# Altium integrated library Diodes - TVS.IntLib: 5379 symbols (part 17 of 122)
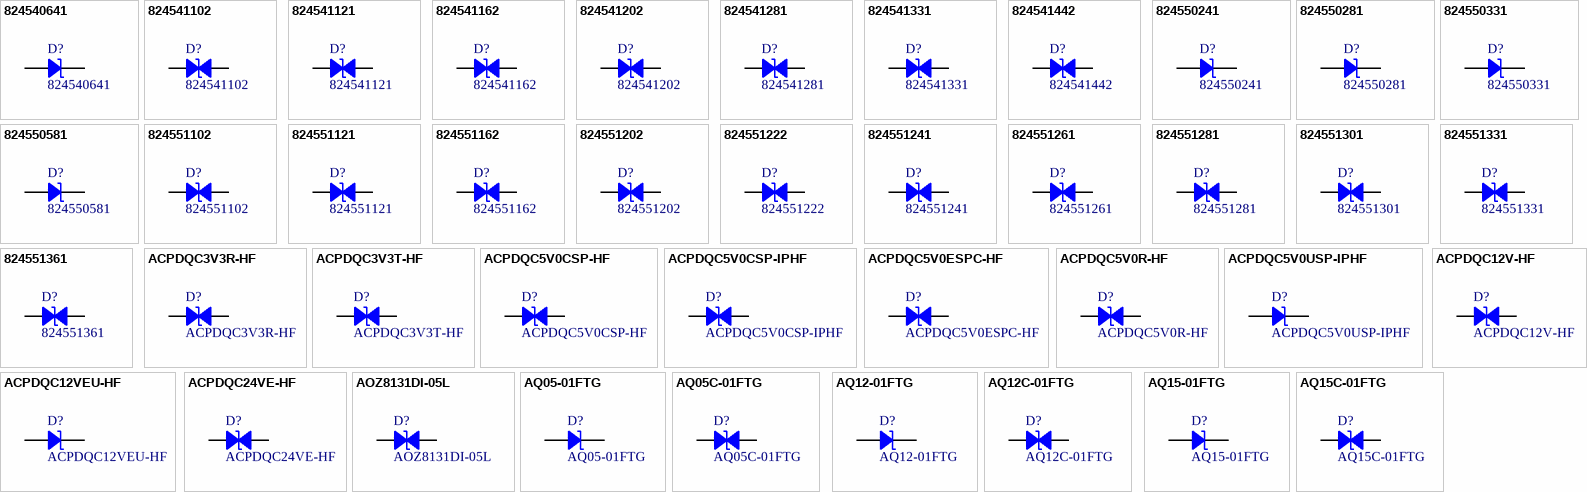
[diagram p150: symbols 824540641 to AQ15C-01FTG]

## ACPDQC5V0CSP-HF
designator D?
TVS DIODE 5V 20V 0402C/SOD923F; Manufacturer: Comchip Technology; Bidirectional Channels: 1; Capacitance @ Frequency: 0.3pF @ 1MHz; Current - Peak Pulse (10/1000µs): 3A (8/20µs); Power Line Protection: No; Power - Peak Pulse: 60W; Type: Zener; Voltage - Breakdown (Min): 6V; Voltage - Reverse Standoff (Typ): 5V (Max); Part Number: ACPDQC5V0CSP-HF; Applications: Automotive; ComponentLink1Description: Datasheet; ComponentLink1URL: http://www.comchiptech.com/admin/files/product/ACPDQC5V0CSP-HF%20RevA449708.pdf; ComponentLink2Description: DigiKey Link; ComponentLink2URL: http://digikey.com/product-detail/en/comchip-technology/ACPDQC5V0CSP-HF/641-1783-1-ND/6138947; Device Package: 0402 (1006 Metric); LastUpdated: 9/2/2020 1:28:49 AM; Lifecycle Status: Active; Minimum Order: 1; Mounting Type: Surface Mount; Operating Temperature: -55°C ~ 150°C (TJ); Package / Case: 0402 (1006 Metric); Packaging: TapeAndReel; PartId: 10461; Part Status: Active; Price: 0.08; Series: Automotive, AEC-Q101; Supplier 1: DigiKey; Supplier Part Number 1: 641-1783-1-ND; Supplier Device Package: 0402/SOD-923F; Voltage - Clamping (Max) @ Ipp: 20V
footprint 0402
pins: 1, 2

## ACPDQC5V0CSP-IPHF
designator D?
ESD DIODE 5VWM 19VC BI-DIR 0402; Manufacturer: Comchip Technology; Bidirectional Channels: 1; Capacitance @ Frequency: 0.15pF @ 1MHz; Current - Peak Pulse (10/1000µs): 2A (8/20µs); Power Line Protection: No; Power - Peak Pulse: 38W; Type: Zener; Voltage - Breakdown (Min): 7V; Voltage - Clamping (Max) @ Ipp: 19V; Voltage - Reverse Standoff (Typ): 5V (Max); Part Number: ACPDQC5V0CSP-IPHF; Applications: Automotive; ComponentLink1Description: Datasheet; ComponentLink1URL: http://www.comchiptech.com/admin/files/product/ACPDQC5V0CSP-IPHF%20RevA.PDF; ComponentLink2Description: DigiKey Link; ComponentLink2URL: http://digikey.com/product-detail/en/comchip-technology/ACPDQC5V0CSP-IPHF/641-2058-1-ND/10106909; Device Package: 0402 (1006 Metric); LastUpdated: 9/2/2020 1:28:49 AM; Lifecycle Status: Active; Minimum Order: 1; Mounting Type: Surface Mount; Operating Temperature: -55°C ~ 150°C (TJ); Package / Case: 0402 (1006 Metric); Packaging: TapeAndReel; PartId: 10455; Part Status: Active; Price: 0.09; Series: Automotive, AEC-Q101; Supplier 1: DigiKey; Supplier Part Number 1: 641-2058-1-ND; Supplier Device Package: 0402C/SOD-923F
footprint 0402
pins: 1, 2

## ACPDQC5V0ESPC-HF
designator D?
ESD DIODE 5VWM 25VC BI-DIR 0402; Manufacturer: Comchip Technology; Bidirectional Channels: 1; Capacitance @ Frequency: 0.28pF @ 1MHz; Current - Peak Pulse (10/1000µs): 4A (8/20µs); Power Line Protection: No; Power - Peak Pulse: 100W; Type: Zener; Voltage - Breakdown (Min): 7V; Voltage - Clamping (Max) @ Ipp: 35V (Typ); Voltage - Reverse Standoff (Typ): 5V (Max); Part Number: ACPDQC5V0ESPC-HF; Applications: Automotive; ComponentLink1Description: Datasheet; ComponentLink1URL: http://www.comchiptech.com/admin/files/product/ACPDQC5V0ESPC-HF%20RevA925610.pdf; ComponentLink2Description: DigiKey Link; ComponentLink2URL: http://digikey.com/product-detail/en/comchip-technology/ACPDQC5V0ESPC-HF/641-2059-1-ND/10106910; Device Package: 0402 (1006 Metric); LastUpdated: 9/2/2020 1:28:48 AM; Lifecycle Status: Active; Minimum Order: 1; Mounting Type: Surface Mount; Operating Temperature: -40°C ~ 125°C (TJ); Package / Case: 0402 (1006 Metric); Packaging: TapeAndReel; PartId: 10430; Part Status: Active; Price: 0.08; Series: Automotive, AEC-Q101; Supplier 1: DigiKey; Supplier Part Number 1: 641-2059-1-ND; Supplier Device Package: 0402C/SOD-923F
footprint 0402
pins: 1, 2

## ACPDQC5V0R-HF
designator D?
TVS DIODE 5V 12V 0402C/SOD923F; Manufacturer: Comchip Technology; Bidirectional Channels: 1; Capacitance @ Frequency: 24pF @ 1MHz; Current - Peak Pulse (10/1000µs): 11A (8/20µs); Power Line Protection: No; Type: Zener; Voltage - Breakdown (Min): 5.6V; Voltage - Reverse Standoff (Typ): 5V (Max); Part Number: ACPDQC5V0R-HF; Applications: Automotive; ComponentLink1Description: Datasheet; ComponentLink1URL: http://www.comchiptech.com/admin/files/product/ACPDxx5V0R-HF%20Series%20RevB661222.pdf; ComponentLink2Description: DigiKey Link; ComponentLink2URL: http://digikey.com/product-detail/en/comchip-technology/ACPDQC5V0R-HF/641-1636-1-ND/5013841; Device Package: 0402 (1005 Metric); LastUpdated: 9/2/2020 1:28:49 AM; Lifecycle Status: Active; Minimum Order: 1; Mounting Type: Surface Mount; Operating Temperature: -40°C ~ 150°C (TJ); Package / Case: 0402 (1005 Metric); Packaging: TapeAndReel; PartId: 10494; Part Status: Active; Price: 0.06; Series: Automotive, AEC-Q101; Supplier 1: DigiKey; Supplier Part Number 1: 641-1636-1-ND; Supplier Device Package: 0402C/SOD-923F; Voltage - Clamping (Max) @ Ipp: 12V
footprint 0402
pins: 1, 2

## ACPDQC5V0USP-IPHF
designator D?
ESD DIODE 5VWM 15VC 0402 SOD-923; Manufacturer: Comchip Technology; Capacitance @ Frequency: 0.3pF @ 1MHz; Current - Peak Pulse (10/1000µs): 2A (8/20µs); Power Line Protection: No; Power - Peak Pulse: 30W; Type: Zener; Unidirectional Channels: 1; Voltage - Breakdown (Min): 6V; Voltage - Clamping (Max) @ Ipp: 15V; Voltage - Reverse Standoff (Typ): 5V (Max); Part Number: ACPDQC5V0USP-IPHF; Applications: Automotive; ComponentLink1Description: Datasheet; ComponentLink1URL: http://www.comchiptech.com/admin/files/product/12015_20190312162617.PDF; ComponentLink2Description: DigiKey Link; ComponentLink2URL: http://digikey.com/product-detail/en/comchip-technology/ACPDQC5V0USP-IPHF/641-2048-1-ND/10106899; Device Package: 0402 (1006 Metric); LastUpdated: 9/2/2020 1:28:45 AM; Lifecycle Status: Active; Minimum Order: 1; Mounting Type: Surface Mount; Operating Temperature: -55°C ~ 150°C (TJ); Package / Case: 0402 (1006 Metric); Packaging: TapeAndReel; PartId: 10390; Part Status: Active; Price: 0.07; Series: Automotive, AEC-Q101; Supplier 1: DigiKey; Supplier Part Number 1: 641-2048-1-ND; Supplier Device Package: 0402C/SOD-923F
footprint 0402
pins: 1, 2

## ACPDQC12V-HF
designator D?
ESD DIODE 12VWM 25VC BI-DIR 0402; Manufacturer: Comchip Technology; Bidirectional Channels: 1; Capacitance @ Frequency: 12pF @ 1MHz; Current - Peak Pulse (10/1000µs): 1A (8/20µs); Power Line Protection: No; Power - Peak Pulse: 25W; Type: Zener; Voltage - Breakdown (Min): 13V; Voltage - Clamping (Max) @ Ipp: 25V; Voltage - Reverse Standoff (Typ): 12V (Max); Part Number: ACPDQC12V-HF; Applications: Automotive; ComponentLink1Description: Datasheet; ComponentLink1URL: http://www.comchiptech.com/admin/files/product/12027_20190315101536.pdf; ComponentLink2Description: DigiKey Link; ComponentLink2URL: http://digikey.com/product-detail/en/comchip-technology/ACPDQC12V-HF/641-2050-1-ND/10106901; Device Package: 0402 (1006 Metric); LastUpdated: 9/2/2020 1:28:49 AM; Lifecycle Status: Active; Minimum Order: 1; Mounting Type: Surface Mount; Operating Temperature: -40°C ~ 125°C (TJ); Package / Case: 0402 (1006 Metric); Packaging: TapeAndReel; PartId: 10478; Part Status: Active; Price: 0.08; Series: Automotive, AEC-Q101; Supplier 1: DigiKey; Supplier Part Number 1: 641-2050-1-ND; Supplier Device Package: 0402C/SOD-923F
footprint 0402
pins: 1, 2

## ACPDQC12VEU-HF
designator D?
ESD DIODE 12VWM 22VC 0402 SOD-92; Manufacturer: Comchip Technology; Capacitance @ Frequency: 60pF @ 1MHz (Max); Current - Peak Pulse (10/1000µs): 5A (8/20µs); Power Line Protection: No; Power - Peak Pulse: 110W; Type: Zener; Unidirectional Channels: 1; Voltage - Breakdown (Min): 13.5V; Voltage - Clamping (Max) @ Ipp: 22V; Voltage - Reverse Standoff (Typ): 12V (Max); Part Number: ACPDQC12VEU-HF; Applications: Automotive; ComponentLink1Description: Datasheet; ComponentLink1URL: http://www.comchiptech.com/admin/files/product/12014_20190312162309.PDF; ComponentLink2Description: DigiKey Link; ComponentLink2URL: http://digikey.com/product-detail/en/comchip-technology/ACPDQC12VEU-HF/641-2051-1-ND/10106902; Device Package: 0402 (1006 Metric); LastUpdated: 9/2/2020 1:28:45 AM; Lifecycle Status: Active; Minimum Order: 1; Mounting Type: Surface Mount; Operating Temperature: -55°C ~ 125°C (TJ); Package / Case: 0402 (1006 Metric); Packaging: TapeAndReel; PartId: 10371; Part Status: Active; Price: 0.04; Series: Automotive, AEC-Q101; Supplier 1: DigiKey; Supplier Part Number 1: 641-2051-1-ND; Supplier Device Package: 0402C/SOD-923F
footprint 0402
pins: 1, 2

## ACPDQC24VE-HF
designator D?
TVS DIODE 24V 44V 0402C/SOD923F; Manufacturer: Comchip Technology; Bidirectional Channels: 1; Capacitance @ Frequency: 16pF @ 1MHz; Current - Peak Pulse (10/1000µs): 2.5A (8/20µs); Power Line Protection: No; Power - Peak Pulse: 110W; Type: Zener; Voltage - Breakdown (Min): 26.5V; Voltage - Reverse Standoff (Typ): 24V (Max); Part Number: ACPDQC24VE-HF; Applications: Automotive; ComponentLink1Description: Datasheet; ComponentLink1URL: http://www.comchiptech.com/admin/files/product/ACPDQC24VE-HF%20RevA727899.pdf; ComponentLink2Description: DigiKey Link; ComponentLink2URL: http://digikey.com/product-detail/en/comchip-technology/ACPDQC24VE-HF/641-1883-1-ND/7100781; Device Package: 0402 (1006 Metric); LastUpdated: 9/2/2020 1:28:49 AM; Lifecycle Status: Active; Minimum Order: 1; Mounting Type: Surface Mount; Operating Temperature: -55°C ~ 125°C (TJ); Package / Case: 0402 (1006 Metric); Packaging: TapeAndReel; PartId: 10453; Part Status: Active; Price: 0.07; Series: Automotive, AEC-Q101; Supplier 1: DigiKey; Supplier Part Number 1: 641-1883-1-ND; Supplier Device Package: 0402C/SOD-923F; Voltage - Clamping (Max) @ Ipp: 44V
footprint 0402
pins: 1, 2

## AOZ8131DI-05L
designator D?
TVS DIODE 5V 22V 2DFN; Manufacturer: Alpha & Omega Semiconductor Inc.; Bidirectional Channels: 1; Capacitance @ Frequency: 1.25pF @ 1MHz; Current - Peak Pulse (10/1000µs): 4A (8/20µs); Power Line Protection: No; Type: Zener; Voltage - Breakdown (Min): 6V; Voltage - Reverse Standoff (Typ): 5V (Max); Part Number: AOZ8131DI-05L; Applications: General Purpose; ComponentLink1Description: Datasheet; ComponentLink1URL: http://aosmd.com/res/data_sheets/AOZ8131DI.pdf; ComponentLink2Description: DigiKey Link; ComponentLink2URL: http://digikey.com/product-detail/en/alpha-omega-semiconductor-inc/AOZ8131DI-05L/785-1645-1-ND/4484981; Device Package: 0402 (1006 Metric); LastUpdated: 9/2/2020 1:28:49 AM; Lifecycle Status: Active; Minimum Order: 1; Mounting Type: Surface Mount; Operating Temperature: -40°C ~ 125°C (TJ); Package / Case: 0402 (1006 Metric); Packaging: TapeAndReel; PartId: 10486; Part Status: Active; Price: 0.09; Series: -; Supplier 1: DigiKey; Supplier Part Number 1: 785-1645-1-ND; Supplier Device Package: 2-DFN (1x0.6); Voltage - Clamping (Max) @ Ipp: 22V
footprint 0402
pins: 1, 2

## AQ05-01FTG
designator D?
TVS DIODE 5V 13V SOD323; Manufacturer: Littelfuse Inc.; Capacitance @ Frequency: 350pF @ 1MHz (Max); Current - Peak Pulse (10/1000µs): 30A (8/20µs); Power Line Protection: No; Power - Peak Pulse: 450W; Type: Zener; Unidirectional Channels: 1; Voltage - Reverse Standoff (Typ): 5V (Max); Part Number: AQ05-01FTG; Applications: Automotive, CAN; ComponentLink1Description: Datasheet; ComponentLink1URL: https://www.littelfuse.com/~/media/electronics/datasheets/tvs_diode_arrays/littelfuse_tvs_diode_array_aqxx_datasheet.pdf.pdf; ComponentLink2Description: DigiKey Link; ComponentLink2URL: http://digikey.com/product-detail/en/littelfuse-inc/AQ05-01FTG/F10384CT-ND/7902212; LastUpdated: 9/2/2020 1:28:27 AM; Lifecycle Status: Active; Minimum Order: 1; Mounting Type: Surface Mount; Operating Temperature: -40°C ~ 150°C (TA); Package / Case: SC-76, SOD-323; Packaging: TapeAndReel; PartId: 9883; Part Status: Active; Price: 0.11; Series: Automotive, AEC-Q101, AQ, SPA®; Supplier 1: DigiKey; Supplier Part Number 1: F10384CT-ND; Supplier Device Package: SOD-323; Voltage - Clamping (Max) @ Ipp: 13V
footprint SOD323
pins: 1, 2

## AQ05C-01FTG
designator D?
TVS DIODE 5V 14.5V SOD323; Manufacturer: Littelfuse Inc.; Bidirectional Channels: 1; Capacitance @ Frequency: 200pF @ 1MHz (Max); Current - Peak Pulse (10/1000µs): 30A (8/20µs); Power Line Protection: No; Power - Peak Pulse: 450W; Type: Zener; Voltage - Reverse Standoff (Typ): 5V (Max); Part Number: AQ05C-01FTG; Applications: Automotive, CAN; ComponentLink1Description: Datasheet; ComponentLink1URL: https://www.littelfuse.com/~/media/electronics/datasheets/tvs_diode_arrays/littelfuse_tvs_diode_array_aqxxc_datasheet.pdf.pdf; ComponentLink2Description: DigiKey Link; ComponentLink2URL: http://digikey.com/product-detail/en/littelfuse-inc/AQ05C-01FTG/F10385CT-ND/7902213; LastUpdated: 9/2/2020 1:28:29 AM; Lifecycle Status: Active; Minimum Order: 1; Mounting Type: Surface Mount; Operating Temperature: -40°C ~ 150°C (TA); Package / Case: SC-76, SOD-323; Packaging: TapeAndReel; PartId: 9968; Part Status: Active; Price: 0.13; Series: Automotive, AEC-Q101, AQ, SPA®; Supplier 1: DigiKey; Supplier Part Number 1: F10385CT-ND; Supplier Device Package: SOD-323; Voltage - Clamping (Max) @ Ipp: 14.5V
footprint SOD323
pins: 1, 2

## AQ12-01FTG
designator D?
TVS DIODE 12V 22.5V SOD323; Manufacturer: Littelfuse Inc.; Capacitance @ Frequency: 150pF @ 1MHz (Max); Current - Peak Pulse (10/1000µs): 17A (8/20µs); Power Line Protection: No; Power - Peak Pulse: 450W; Type: Zener; Unidirectional Channels: 1; Voltage - Reverse Standoff (Typ): 12V (Max); Part Number: AQ12-01FTG; Applications: Automotive, CAN; ComponentLink1Description: Datasheet; ComponentLink1URL: https://www.littelfuse.com/~/media/electronics/datasheets/tvs_diode_arrays/littelfuse_tvs_diode_array_aqxx_datasheet.pdf.pdf; ComponentLink2Description: DigiKey Link; ComponentLink2URL: http://digikey.com/product-detail/en/littelfuse-inc/AQ12-01FTG/F10386CT-ND/7902214; LastUpdated: 9/2/2020 1:28:27 AM; Lifecycle Status: Active; Minimum Order: 1; Mounting Type: Surface Mount; Operating Temperature: -40°C ~ 150°C (TA); Package / Case: SC-76, SOD-323; Packaging: CutTape; PartId: 9897; Part Status: Active; Price: 0.42; Series: Automotive, AEC-Q101, AQ, SPA®; Supplier 1: DigiKey; Supplier Part Number 1: F10386CT-ND; Supplier Device Package: SOD-323; Voltage - Clamping (Max) @ Ipp: 22.5V
footprint SOD323
pins: 1, 2

## AQ12C-01FTG
designator D?
TVS DIODE 12V 23V SOD323; Manufacturer: Littelfuse Inc.; Bidirectional Channels: 1; Capacitance @ Frequency: 100pF @ 1MHz (Max); Current - Peak Pulse (10/1000µs): 17A (8/20µs); Power Line Protection: No; Power - Peak Pulse: 450W; Type: Zener; Voltage - Reverse Standoff (Typ): 12V (Max); Part Number: AQ12C-01FTG; Applications: Automotive, CAN; ComponentLink1Description: Datasheet; ComponentLink1URL: https://www.littelfuse.com/~/media/electronics/datasheets/tvs_diode_arrays/littelfuse_tvs_diode_array_aqxxc_datasheet.pdf.pdf; ComponentLink2Description: DigiKey Link; ComponentLink2URL: http://digikey.com/product-detail/en/littelfuse-inc/AQ12C-01FTG/F10387CT-ND/7902215; LastUpdated: 9/2/2020 1:28:29 AM; Lifecycle Status: Active; Minimum Order: 1; Mounting Type: Surface Mount; Operating Temperature: -40°C ~ 150°C (TA); Package / Case: SC-76, SOD-323; Packaging: TapeAndReel; PartId: 9971; Part Status: Active; Price: 0.13; Series: Automotive, AEC-Q101, AQ, SPA®; Supplier 1: DigiKey; Supplier Part Number 1: F10387CT-ND; Supplier Device Package: SOD-323; Voltage - Clamping (Max) @ Ipp: 23V
footprint SOD323
pins: 1, 2

## AQ15-01FTG
designator D?
TVS DIODE 15V 30V SOD323; Manufacturer: Littelfuse Inc.; Capacitance @ Frequency: 100pF @ 1MHz (Max); Current - Peak Pulse (10/1000µs): 12A (8/20µs); Power Line Protection: No; Power - Peak Pulse: 450W; Type: Zener; Unidirectional Channels: 1; Voltage - Reverse Standoff (Typ): 15V (Max); Part Number: AQ15-01FTG; Applications: Automotive, CAN; ComponentLink1Description: Datasheet; ComponentLink1URL: https://www.littelfuse.com/~/media/electronics/datasheets/tvs_diode_arrays/littelfuse_tvs_diode_array_aqxx_datasheet.pdf.pdf; ComponentLink2Description: DigiKey Link; ComponentLink2URL: http://digikey.com/product-detail/en/littelfuse-inc/AQ15-01FTG/F10388CT-ND/7902216; LastUpdated: 9/2/2020 1:28:27 AM; Lifecycle Status: Active; Minimum Order: 1; Mounting Type: Surface Mount; Operating Temperature: -40°C ~ 150°C (TA); Package / Case: SC-76, SOD-323; Packaging: CutTape; PartId: 9903; Part Status: Active; Price: 0.42; Series: Automotive, AEC-Q101, AQ, SPA®; Supplier 1: DigiKey; Supplier Part Number 1: F10388CT-ND; Supplier Device Package: SOD-323; Voltage - Clamping (Max) @ Ipp: 30V
footprint SOD323
pins: 1, 2

## AQ15C-01FTG
designator D?
TVS DIODE 15V 31V SOD323; Manufacturer: Littelfuse Inc.; Bidirectional Channels: 1; Capacitance @ Frequency: 75pF @ 1MHz (Max); Current - Peak Pulse (10/1000µs): 12A (8/20µs); Power Line Protection: No; Power - Peak Pulse: 450W; Type: Zener; Voltage - Reverse Standoff (Typ): 15V (Max); Part Number: AQ15C-01FTG; Applications: Automotive, CAN; ComponentLink1Description: Datasheet; ComponentLink1URL: https://www.littelfuse.com/~/media/electronics/datasheets/tvs_diode_arrays/littelfuse_tvs_diode_array_aqxxc_datasheet.pdf.pdf; ComponentLink2Description: DigiKey Link; ComponentLink2URL: http://digikey.com/product-detail/en/littelfuse-inc/AQ15C-01FTG/F10389CT-ND/7902217; LastUpdated: 9/2/2020 1:28:29 AM; Lifecycle Status: Active; Minimum Order: 1; Mounting Type: Surface Mount; Operating Temperature: -40°C ~ 150°C (TA); Package / Case: SC-76, SOD-323; Packaging: TapeAndReel; PartId: 9983; Part Status: Active; Price: 0.13; Series: Automotive, AEC-Q101, AQ, SPA®; Supplier 1: DigiKey; Supplier Part Number 1: F10389CT-ND; Supplier Device Package: SOD-323; Voltage - Clamping (Max) @ Ipp: 31V
footprint SOD323
pins: 1, 2

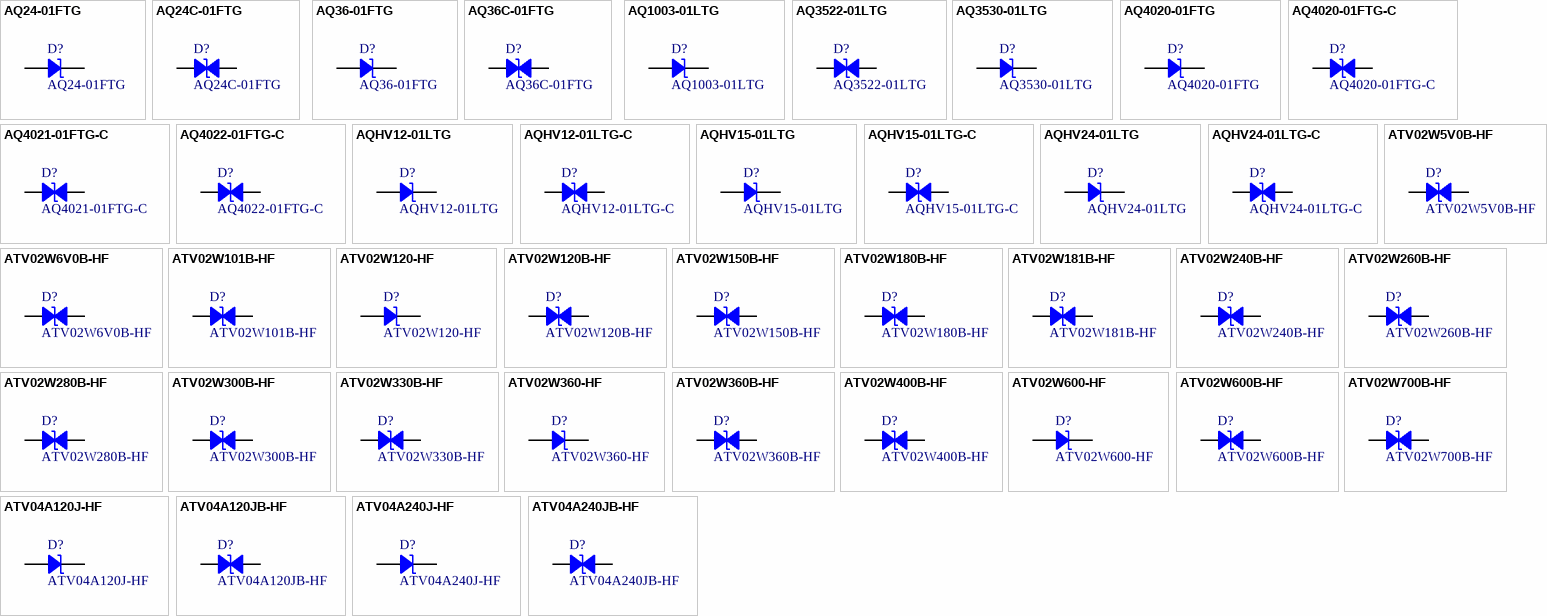
[diagram p18: symbols AQ24-01FTG to ATV04A240JB-HF]

## AQ24-01FTG
designator D?
TVS DIODE 24V 42V SOD323; Manufacturer: Littelfuse Inc.; Capacitance @ Frequency: 65pF @ 1MHz (Max); Current - Peak Pulse (10/1000µs): 7A (8/20µs); Power Line Protection: No; Power - Peak Pulse: 450W; Type: Zener; Unidirectional Channels: 1; Voltage - Reverse Standoff (Typ): 24V (Max); Part Number: AQ24-01FTG; Applications: Automotive, CAN; ComponentLink1Description: Datasheet; ComponentLink1URL: https://www.littelfuse.com/~/media/electronics/datasheets/tvs_diode_arrays/littelfuse_tvs_diode_array_aqxx_datasheet.pdf.pdf; ComponentLink2Description: DigiKey Link; ComponentLink2URL: http://digikey.com/product-detail/en/littelfuse-inc/AQ24-01FTG/F10390CT-ND/7902218; LastUpdated: 9/2/2020 1:28:27 AM; Lifecycle Status: Active; Minimum Order: 1; Mounting Type: Surface Mount; Operating Temperature: -40°C ~ 150°C (TA); Package / Case: SC-76, SOD-323; Packaging: CutTape; PartId: 9896; Part Status: Active; Price: 0.42; Series: Automotive, AEC-Q101, AQ, SPA®; Supplier 1: DigiKey; Supplier Part Number 1: F10390CT-ND; Supplier Device Package: SOD-323; Voltage - Clamping (Max) @ Ipp: 42V
footprint SOD323
pins: 1, 2

## AQ24C-01FTG
designator D?
TVS DIODE 24V 42V SOD323; Manufacturer: Littelfuse Inc.; Bidirectional Channels: 1; Capacitance @ Frequency: 50pF @ 1MHz (Max); Current - Peak Pulse (10/1000µs): 7A (8/20µs); Power Line Protection: No; Power - Peak Pulse: 450W; Type: Zener; Voltage - Reverse Standoff (Typ): 24V (Max); Part Number: AQ24C-01FTG; Applications: Automotive, CAN; ComponentLink1Description: Datasheet; ComponentLink1URL: https://www.littelfuse.com/~/media/electronics/datasheets/tvs_diode_arrays/littelfuse_tvs_diode_array_aqxxc_datasheet.pdf.pdf; ComponentLink2Description: DigiKey Link; ComponentLink2URL: http://digikey.com/product-detail/en/littelfuse-inc/AQ24C-01FTG/F10391CT-ND/7902219; LastUpdated: 9/2/2020 1:28:29 AM; Lifecycle Status: Active; Minimum Order: 1; Mounting Type: Surface Mount; Operating Temperature: -40°C ~ 150°C (TA); Package / Case: SC-76, SOD-323; Packaging: TapeAndReel; PartId: 9967; Part Status: Active; Price: 0.13; Series: Automotive, AEC-Q101, AQ, SPA®; Supplier 1: DigiKey; Supplier Part Number 1: F10391CT-ND; Supplier Device Package: SOD-323; Voltage - Clamping (Max) @ Ipp: 42V
footprint SOD323
pins: 1, 2

## AQ36-01FTG
designator D?
TVS DIODE 36V 62V SOD323; Manufacturer: Littelfuse Inc.; Capacitance @ Frequency: 50pF @ 1MHz (Max); Current - Peak Pulse (10/1000µs): 5A (8/20µs); Power Line Protection: No; Power - Peak Pulse: 450W; Type: Zener; Unidirectional Channels: 1; Voltage - Reverse Standoff (Typ): 36V (Max); Part Number: AQ36-01FTG; Applications: Automotive, CAN; ComponentLink1Description: Datasheet; ComponentLink1URL: https://www.littelfuse.com/~/media/electronics/datasheets/tvs_diode_arrays/littelfuse_tvs_diode_array_aqxx_datasheet.pdf.pdf; ComponentLink2Description: DigiKey Link; ComponentLink2URL: http://digikey.com/product-detail/en/littelfuse-inc/AQ36-01FTG/F10392CT-ND/7902220; LastUpdated: 9/2/2020 1:28:27 AM; Lifecycle Status: Active; Minimum Order: 1; Mounting Type: Surface Mount; Operating Temperature: -40°C ~ 150°C (TA); Package / Case: SC-76, SOD-323; Packaging: TapeAndReel; PartId: 9884; Part Status: Active; Price: 0.11; Series: Automotive, AEC-Q101, AQ, SPA®; Supplier 1: DigiKey; Supplier Part Number 1: F10392CT-ND; Supplier Device Package: SOD-323; Voltage - Clamping (Max) @ Ipp: 62V
footprint SOD323
pins: 1, 2

## AQ36C-01FTG
designator D?
TVS DIODE 36V 62V SOD323; Manufacturer: Littelfuse Inc.; Bidirectional Channels: 1; Capacitance @ Frequency: 30pF @ 1MHz (Max); Current - Peak Pulse (10/1000µs): 5A (8/20µs); Power Line Protection: No; Power - Peak Pulse: 450W; Type: Zener; Voltage - Reverse Standoff (Typ): 36V (Max); Part Number: AQ36C-01FTG; Applications: Automotive, CAN; ComponentLink1Description: Datasheet; ComponentLink1URL: https://www.littelfuse.com/~/media/electronics/datasheets/tvs_diode_arrays/littelfuse_tvs_diode_array_aqxxc_datasheet.pdf.pdf; ComponentLink2Description: DigiKey Link; ComponentLink2URL: http://digikey.com/product-detail/en/littelfuse-inc/AQ36C-01FTG/F10393CT-ND/7902221; LastUpdated: 9/2/2020 1:28:29 AM; Lifecycle Status: Active; Minimum Order: 1; Mounting Type: Surface Mount; Operating Temperature: -40°C ~ 150°C (TA); Package / Case: SC-76, SOD-323; Packaging: TapeAndReel; PartId: 9970; Part Status: Active; Price: 0.13; Series: Automotive, AEC-Q101, AQ, SPA®; Supplier 1: DigiKey; Supplier Part Number 1: F10393CT-ND; Supplier Device Package: SOD-323; Voltage - Clamping (Max) @ Ipp: 62V
footprint SOD323
pins: 1, 2

## AQ1003-01LTG
designator D?
TVS DIODE 7.8V 7A ESD SOD-523; Manufacturer: Littelfuse Inc.; Capacitance @ Frequency: 30pF @ 1MHz; Current - Peak Pulse (10/1000µs): 7A (8/20µs); Power Line Protection: No; Type: Zener; Unidirectional Channels: 1; Voltage - Breakdown (Min): 6V; Voltage - Clamping (Max) @ Ipp: 14V; Voltage - Reverse Standoff (Typ): 5V (Max); Part Number: AQ1003-01LTG; Applications: Automotive; ComponentLink2Description: DigiKey Link; ComponentLink2URL: http://digikey.com/product-detail/en/littelfuse-inc/AQ1003-01LTG/AQ1003-01LTGCT-ND/9858291; LastUpdated: 9/2/2020 1:28:24 AM; Lifecycle Status: Active; Minimum Order: 1; Mounting Type: Surface Mount; Operating Temperature: -40°C ~ 150°C (TA); Package / Case: SC-79, SOD-523; Packaging: TapeAndReel; PartId: 9796; Part Status: Active; Price: 0.11; Series: Automotive, AEC-Q101, AQ1003, SPA®; Supplier 1: DigiKey; Supplier Part Number 1: AQ1003-01LTGCT-ND; Supplier Device Package: SOD-523
footprint SOD523F
pins: 1, 2

## AQ3522-01LTG
designator D?
1CH 0.15PF 22KV 5V BI TVS DIODE; Manufacturer: Littelfuse Inc.; Bidirectional Channels: 1; Capacitance @ Frequency: 0.15pF @ 3GHz; Current - Peak Pulse (10/1000µs): 2.5A (8/20µs); Power Line Protection: No; Type: Zener; Voltage - Breakdown (Min): 8.5V; Voltage - Clamping (Max) @ Ipp: 18V; Voltage - Reverse Standoff (Typ): 5V (Max); Part Number: AQ3522-01LTG; Applications: Automotive; ComponentLink2Description: DigiKey Link; ComponentLink2URL: http://digikey.com/product-detail/en/littelfuse-inc/AQ3522-01LTG/18-AQ3522-01LTGCT-ND/12757198; LastUpdated: 8/30/2020 9:07:49 PM; Lifecycle Status: Active; Minimum Order: 1; Mounting Type: Surface Mount; Package / Case: SC-79, SOD-523; Packaging: Unknown; PartId: 11490; Price: 0.10; Series: Automotive, AEC-Q101, AQ3522, SPA®; Supplier 1: DigiKey; Supplier Part Number 1: 18-AQ3522-01LTGCT-ND; Supplier Device Package: SOD-523
footprint SOD523F
pins: 1, 2

## AQ3530-01LTG
designator D?
1CH 0.3PF 22KV 5V UNI TVS DIODE; Manufacturer: Littelfuse Inc.; Capacitance @ Frequency: 0.3pF @ 3GHz; Current - Peak Pulse (10/1000µs): 2.5A (8/20µs); Power Line Protection: No; Type: Zener; Unidirectional Channels: 1; Voltage - Breakdown (Min): 7.5V; Voltage - Clamping (Max) @ Ipp: 15V; Voltage - Reverse Standoff (Typ): 5V (Max); Part Number: AQ3530-01LTG; Applications: Automotive, HDMI, USB; ComponentLink2Description: DigiKey Link; ComponentLink2URL: http://digikey.com/product-detail/en/littelfuse-inc/AQ3530-01LTG/18-AQ3530-01LTGCT-ND/12756512; LastUpdated: 8/30/2020 9:07:48 PM; Lifecycle Status: Active; Minimum Order: 1; Mounting Type: Surface Mount; Package / Case: SC-79, SOD-523; Packaging: Unknown; PartId: 11454; Price: 0.09; Series: Automotive, AEC-Q101, AQ3530, SPA®; Supplier 1: DigiKey; Supplier Part Number 1: 18-AQ3530-01LTGCT-ND; Supplier Device Package: SOD-523
footprint SOD523F
pins: 1, 2

## AQ4020-01FTG
designator D?
TVS DIODE 3.3V 24.5V SOD323; Manufacturer: Littelfuse Inc.; Capacitance @ Frequency: 2.5pF @ 1MHz; Current - Peak Pulse (10/1000µs): 30A (8/20µs); Power Line Protection: No; Power - Peak Pulse: 735W; Type: Zener; Unidirectional Channels: 1; Voltage - Breakdown (Min): 3.5V; Voltage - Clamping (Max) @ Ipp: 24.5V (Typ); Voltage - Reverse Standoff (Typ): 3.3V (Max); Part Number: AQ4020-01FTG; Applications: Automotive, CAN, Ethernet, USB; ComponentLink1Description: Datasheet; ComponentLink1URL: https://www.littelfuse.com/~/media/electronics/datasheets/tvs_diode_arrays/littelfuse_tvs_diode_array_aq4020_datasheet.pdf.pdf; ComponentLink2Description: DigiKey Link; ComponentLink2URL: http://digikey.com/product-detail/en/littelfuse-inc/AQ4020-01FTG/F10394CT-ND/7902222; LastUpdated: 9/2/2020 1:28:27 AM; Lifecycle Status: Active; Minimum Order: 1; Mounting Type: Surface Mount; Operating Temperature: -40°C ~ 150°C (TA); Package / Case: SC-76, SOD-323; Packaging: TapeAndReel; PartId: 9861; Part Status: Active; Price: 0.23; Series: Automotive, AEC-Q101, AQ4020, SPA®; Supplier 1: DigiKey; Supplier Part Number 1: F10394CT-ND; Supplier Device Package: SOD-323
footprint SOD323
pins: 1, 2

## AQ4020-01FTG-C
designator D?
TVS DIODE 3.3V 24.5V SOD323; Manufacturer: Littelfuse Inc.; Bidirectional Channels: 1; Capacitance @ Frequency: 2.5pF @ 1MHz; Current - Peak Pulse (10/1000µs): 30A (8/20µs); Power Line Protection: No; Power - Peak Pulse: 735W; Type: Zener; Voltage - Breakdown (Min): 3.5V; Voltage - Clamping (Max) @ Ipp: 24.5V (Typ); Voltage - Reverse Standoff (Typ): 3.3V (Max); Part Number: AQ4020-01FTG-C; Applications: Automotive, CAN, Ethernet, USB; ComponentLink1Description: Datasheet; ComponentLink1URL: https://www.littelfuse.com/~/media/electronics/datasheets/tvs_diode_arrays/littelfuse_tvs_diode_array_aq4020_datasheet.pdf.pdf; ComponentLink2Description: DigiKey Link; ComponentLink2URL: http://digikey.com/product-detail/en/littelfuse-inc/AQ4020-01FTG-C/F10395CT-ND/7902223; LastUpdated: 9/2/2020 1:28:29 AM; Lifecycle Status: Active; Minimum Order: 1; Mounting Type: Surface Mount; Operating Temperature: -40°C ~ 150°C (TA); Package / Case: SC-76, SOD-323; Packaging: TapeAndReel; PartId: 9936; Part Status: Active; Price: 0.25; Series: Automotive, AEC-Q101, AQ4020, SPA®; Supplier 1: DigiKey; Supplier Part Number 1: F10395CT-ND; Supplier Device Package: SOD-323
footprint SOD323
pins: 1, 2

## AQ4021-01FTG-C
designator D?
TVS DIODE 5V 20.5V SOD323; Manufacturer: Littelfuse Inc.; Bidirectional Channels: 1; Capacitance @ Frequency: 2.5pF @ 1MHz; Current - Peak Pulse (10/1000µs): 25A (8/20µs); Power Line Protection: No; Power - Peak Pulse: 500W; Type: Zener; Voltage - Breakdown (Min): 6.3V; Voltage - Clamping (Max) @ Ipp: 20.5V (Typ); Voltage - Reverse Standoff (Typ): 5V (Max); Part Number: AQ4021-01FTG-C; Applications: Automotive, CAN, Ethernet, USB; ComponentLink1Description: Datasheet; ComponentLink1URL: https://www.littelfuse.com/~/media/electronics/datasheets/tvs_diode_arrays/littelfuse_tvs_diode_array_aq4021_datasheet.pdf.pdf; ComponentLink2Description: DigiKey Link; ComponentLink2URL: http://digikey.com/product-detail/en/littelfuse-inc/AQ4021-01FTG-C/F10397CT-ND/7902225; LastUpdated: 9/2/2020 1:28:29 AM; Lifecycle Status: Active; Minimum Order: 1; Mounting Type: Surface Mount; Operating Temperature: -40°C ~ 150°C (TA); Package / Case: SC-76, SOD-323; Packaging: TapeAndReel; PartId: 9924; Part Status: Active; Price: 0.22; Series: Automotive, AEC-Q101, AQ4021, SPA®; Supplier 1: DigiKey; Supplier Part Number 1: F10397CT-ND; Supplier Device Package: SOD-323
footprint SOD323
pins: 1, 2

## AQ4022-01FTG-C
designator D?
TVS DIODE 12V 35V SOD323; Manufacturer: Littelfuse Inc.; Bidirectional Channels: 1; Capacitance @ Frequency: 1.3pF @ 1MHz; Current - Peak Pulse (10/1000µs): 15A (8/20µs); Power Line Protection: No; Power - Peak Pulse: 500W; Type: Zener; Voltage - Breakdown (Min): 13.3V; Voltage - Clamping (Max) @ Ipp: 33V; Voltage - Reverse Standoff (Typ): 12V (Max); Part Number: AQ4022-01FTG-C; Applications: Automotive, CAN; ComponentLink1Description: Datasheet; ComponentLink1URL: https://www.littelfuse.com/~/media/electronics/datasheets/tvs_diode_arrays/littelfuse_tvs_diode_array_aq4022_datasheet.pdf.pdf; ComponentLink2Description: DigiKey Link; ComponentLink2URL: http://digikey.com/product-detail/en/littelfuse-inc/AQ4022-01FTG-C/F10399CT-ND/7902227; LastUpdated: 9/2/2020 1:28:29 AM; Lifecycle Status: Active; Minimum Order: 1; Mounting Type: Surface Mount; Operating Temperature: -40°C ~ 150°C (TA); Package / Case: SC-76, SOD-323; Packaging: TapeAndReel; PartId: 9973; Part Status: Active; Price: 0.19; Series: Automotive, AEC-Q101, AQ4022, SPA®; Supplier 1: DigiKey; Supplier Part Number 1: F10399CT-ND; Supplier Device Package: SOD-323
footprint SOD323
pins: 1, 2

## AQHV12-01LTG
designator D?
TVS DIODE 12V 250W ESD SOD-523; Manufacturer: Littelfuse Inc.; Capacitance @ Frequency: 55.5pF @ 1MHz; Current - Peak Pulse (10/1000µs): 10A (8/20µs); Power Line Protection: No; Type: Zener; Unidirectional Channels: 1; Voltage - Breakdown (Min): 13.3V; Voltage - Clamping (Max) @ Ipp: 26V; Voltage - Reverse Standoff (Typ): 12V (Max); Part Number: AQHV12-01LTG; Applications: Automotive, CAN; ComponentLink1Description: Datasheet; ComponentLink1URL: https://www.littelfuse.com/~/media/electronics/datasheets/tvs_diode_arrays/littelfuse_tvs_diode_array_aqhvxx_01ltg_datasheet.pdf.pdf; ComponentLink2Description: DigiKey Link; ComponentLink2URL: http://digikey.com/product-detail/en/littelfuse-inc/AQHV12-01LTG/AQHV12-01LTGCT-ND/9858292; LastUpdated: 9/2/2020 1:28:23 AM; Lifecycle Status: Active; Minimum Order: 1; Mounting Type: Surface Mount; Operating Temperature: -40°C ~ 150°C (TA); Package / Case: SC-79, SOD-523; Packaging: TapeAndReel; PartId: 9720; Part Status: Active; Power - Peak Pulse: 250W; Price: 0.10; Series: Automotive, AEC-Q101, AQHV, SPA®; Supplier 1: DigiKey; Supplier Part Number 1: AQHV12-01LTGCT-ND; Supplier Device Package: SOD-523
footprint SOD523F
pins: 1, 2

## AQHV12-01LTG-C
designator D?
TVS DIODE 12V 250W ESD BI SOD523; Manufacturer: Littelfuse Inc.; Bidirectional Channels: 1; Current - Peak Pulse (10/1000µs): 10A (8/20µs); Power Line Protection: No; Power - Peak Pulse: 300W; Type: Zener; Voltage - Breakdown (Min): 13.3V; Voltage - Clamping (Max) @ Ipp: 30V; Voltage - Reverse Standoff (Typ): 12V (Max); Part Number: AQHV12-01LTG-C; Applications: Automotive, CAN; ComponentLink1Description: Datasheet; ComponentLink1URL: https://www.littelfuse.com/~/media/electronics/datasheets/tvs_diode_arrays/littelfuse_tvs_diode_array_aqhvxx_01ltg_c_datasheet.pdf.pdf; ComponentLink2Description: DigiKey Link; ComponentLink2URL: http://digikey.com/product-detail/en/littelfuse-inc/AQHV12-01LTG-C/AQHV12-01LTG-CCT-ND/9858295; LastUpdated: 9/2/2020 1:28:25 AM; Lifecycle Status: Active; Minimum Order: 1; Mounting Type: Surface Mount; Operating Temperature: -40°C ~ 150°C (TA); Package / Case: SC-79, SOD-523; Packaging: TapeAndReel; PartId: 9816; Part Status: Active; Price: 0.11; Series: Automotive, AEC-Q101, AQHV, SPA®; Supplier 1: DigiKey; Supplier Part Number 1: AQHV12-01LTG-CCT-ND; Supplier Device Package: SOD-523
footprint SOD523F
pins: 1, 2

## AQHV15-01LTG
designator D?
TVS DIODE 15V 250W ESD SOD-523; Manufacturer: Littelfuse Inc.; Capacitance @ Frequency: 43pF @ 1MHz; Current - Peak Pulse (10/1000µs): 7A (8/20µs); Power Line Protection: No; Type: Zener; Unidirectional Channels: 1; Voltage - Breakdown (Min): 16.7V; Voltage - Clamping (Max) @ Ipp: 35V; Voltage - Reverse Standoff (Typ): 15V (Max); Part Number: AQHV15-01LTG; Applications: Automotive, CAN; ComponentLink1Description: Datasheet; ComponentLink1URL: https://www.littelfuse.com/~/media/electronics/datasheets/tvs_diode_arrays/littelfuse_tvs_diode_array_aqhvxx_01ltg_datasheet.pdf.pdf; ComponentLink2Description: DigiKey Link; ComponentLink2URL: http://digikey.com/product-detail/en/littelfuse-inc/AQHV15-01LTG/AQHV15-01LTGCT-ND/9858293; LastUpdated: 9/2/2020 1:28:24 AM; Lifecycle Status: Active; Minimum Order: 1; Mounting Type: Surface Mount; Operating Temperature: -40°C ~ 150°C (TA); Package / Case: SC-79, SOD-523; Packaging: TapeAndReel; PartId: 9740; Part Status: Active; Power - Peak Pulse: 250W; Price: 0.10; Series: Automotive, AEC-Q101, AQHV, SPA®; Supplier 1: DigiKey; Supplier Part Number 1: AQHV15-01LTGCT-ND; Supplier Device Package: SOD-523
footprint SOD523F
pins: 1, 2

## AQHV15-01LTG-C
designator D?
TVS DIODE 15V 250W ESD BI SOD523; Manufacturer: Littelfuse Inc.; Bidirectional Channels: 1; Current - Peak Pulse (10/1000µs): 7A (8/20µs); Power Line Protection: No; Power - Peak Pulse: 300W; Type: Zener; Voltage - Breakdown (Min): 16.7V; Voltage - Clamping (Max) @ Ipp: 37V; Voltage - Reverse Standoff (Typ): 15V (Max); Part Number: AQHV15-01LTG-C; Applications: Automotive, CAN; ComponentLink1Description: Datasheet; ComponentLink1URL: https://www.littelfuse.com/~/media/electronics/datasheets/tvs_diode_arrays/littelfuse_tvs_diode_array_aqhvxx_01ltg_c_datasheet.pdf.pdf; ComponentLink2Description: DigiKey Link; ComponentLink2URL: http://digikey.com/product-detail/en/littelfuse-inc/AQHV15-01LTG-C/AQHV15-01LTG-CCT-ND/9858296; LastUpdated: 9/2/2020 1:28:25 AM; Lifecycle Status: Active; Minimum Order: 1; Mounting Type: Surface Mount; Operating Temperature: -40°C ~ 150°C (TA); Package / Case: SC-79, SOD-523; Packaging: TapeAndReel; PartId: 9818; Part Status: Active; Price: 0.11; Series: Automotive, AEC-Q101, AQHV, SPA®; Supplier 1: DigiKey; Supplier Part Number 1: AQHV15-01LTG-CCT-ND; Supplier Device Package: SOD-523
footprint SOD523F
pins: 1, 2

## AQHV24-01LTG
designator D?
TVS DIODE 24V 250W ESD SOD-523; Manufacturer: Littelfuse Inc.; Capacitance @ Frequency: 30pF @ 1MHz; Current - Peak Pulse (10/1000µs): 5A (8/20µs); Power Line Protection: No; Type: Zener; Unidirectional Channels: 1; Voltage - Breakdown (Min): 26.7V; Voltage - Clamping (Max) @ Ipp: 52V; Voltage - Reverse Standoff (Typ): 24V (Max); Part Number: AQHV24-01LTG; Applications: Automotive, CAN; ComponentLink1Description: Datasheet; ComponentLink1URL: https://www.littelfuse.com/~/media/electronics/datasheets/tvs_diode_arrays/littelfuse_tvs_diode_array_aqhvxx_01ltg_datasheet.pdf.pdf; ComponentLink2Description: DigiKey Link; ComponentLink2URL: http://digikey.com/product-detail/en/littelfuse-inc/AQHV24-01LTG/AQHV24-01LTGCT-ND/9858294; LastUpdated: 9/2/2020 1:28:23 AM; Lifecycle Status: Active; Minimum Order: 1; Mounting Type: Surface Mount; Operating Temperature: -40°C ~ 150°C (TA); Package / Case: SC-79, SOD-523; Packaging: CutTape; PartId: 9719; Part Status: Active; Power - Peak Pulse: 250W; Price: 0.35; Series: Automotive, AEC-Q101, AQHV, SPA®; Supplier 1: DigiKey; Supplier Part Number 1: AQHV24-01LTGCT-ND; Supplier Device Package: SOD-523
footprint SOD523F
pins: 1, 2

## AQHV24-01LTG-C
designator D?
TVS DIODE 124V 250W ESD BI SOD52; Manufacturer: Littelfuse Inc.; Bidirectional Channels: 1; Current - Peak Pulse (10/1000µs): 5A (8/20µs); Power Line Protection: No; Power - Peak Pulse: 300W; Type: Zener; Voltage - Breakdown (Min): 26.7V; Voltage - Clamping (Max) @ Ipp: 55V; Voltage - Reverse Standoff (Typ): 24V (Max); Part Number: AQHV24-01LTG-C; Applications: Automotive, CAN; ComponentLink1Description: Datasheet; ComponentLink1URL: https://www.littelfuse.com/~/media/electronics/datasheets/tvs_diode_arrays/littelfuse_tvs_diode_array_aqhvxx_01ltg_c_datasheet.pdf.pdf; ComponentLink2Description: DigiKey Link; ComponentLink2URL: http://digikey.com/product-detail/en/littelfuse-inc/AQHV24-01LTG-C/AQHV24-01LTG-CCT-ND/9858297; LastUpdated: 9/2/2020 1:28:25 AM; Lifecycle Status: Active; Minimum Order: 1; Mounting Type: Surface Mount; Operating Temperature: -40°C ~ 150°C (TA); Package / Case: SC-79, SOD-523; Packaging: TapeAndReel; PartId: 9832; Part Status: Active; Price: 0.11; Series: Automotive, AEC-Q101, AQHV, SPA®; Supplier 1: DigiKey; Supplier Part Number 1: AQHV24-01LTG-CCT-ND; Supplier Device Package: SOD-523
footprint SOD523F
pins: 1, 2

## ATV02W5V0B-HF
designator D?
TVS DIODE 5V 9.2V SOD123; Manufacturer: Comchip Technology; Bidirectional Channels: 1; Current - Peak Pulse (10/1000µs): 21.74A; Power Line Protection: No; Power - Peak Pulse: 200W; Type: Zener; Voltage - Breakdown (Min): 6.4V; Part Number: ATV02W5V0B-HF; Applications: Automotive; ComponentLink1Description: Datasheet; ComponentLink1URL: http://www.comchiptech.com/admin/files/product/ATV02W-HF%20series%20RevC.pdf; ComponentLink2Description: DigiKey Link; ComponentLink2URL: http://digikey.com/product-detail/en/comchip-technology/ATV02W5V0B-HF/641-1986-1-ND/9598481; LastUpdated: 9/2/2020 1:28:38 AM; Lifecycle Status: Active; Minimum Order: 1; Mounting Type: Surface Mount; Operating Temperature: -55°C ~ 150°C (TJ); Package / Case: SOD-123F; Packaging: TapeAndReel; PartId: 10245; Part Status: Active; Price: 0.10; Series: Automotive, AEC-Q101; Supplier 1: DigiKey; Supplier Part Number 1: 641-1986-1-ND; Supplier Device Package: SOD-123; Voltage - Clamping (Max) @ Ipp: 9.2V; Voltage - Reverse Standoff (Typ): 5V
footprint SOD123F
pins: 1, 2

## ATV02W6V0B-HF
designator D?
TVS DIODE 6V 10.3V SOD123; Manufacturer: Comchip Technology; Bidirectional Channels: 1; Current - Peak Pulse (10/1000µs): 19.42A; Power Line Protection: No; Power - Peak Pulse: 200W; Type: Zener; Voltage - Breakdown (Min): 6.67V; Part Number: ATV02W6V0B-HF; Applications: Automotive; ComponentLink1Description: Datasheet; ComponentLink1URL: http://www.comchiptech.com/admin/files/product/ATV02W-HF%20series%20RevC.pdf; ComponentLink2Description: DigiKey Link; ComponentLink2URL: http://digikey.com/product-detail/en/comchip-technology/ATV02W6V0B-HF/641-2072-1-ND/10131658; LastUpdated: 9/2/2020 1:28:38 AM; Lifecycle Status: Active; Minimum Order: 1; Mounting Type: Surface Mount; Operating Temperature: -55°C ~ 150°C (TJ); Package / Case: SOD-123F; Packaging: TapeAndReel; PartId: 10243; Part Status: Active; Price: 0.10; Series: Automotive, AEC-Q101; Supplier 1: DigiKey; Supplier Part Number 1: 641-2072-1-ND; Supplier Device Package: SOD-123; Voltage - Clamping (Max) @ Ipp: 10.3V; Voltage - Reverse Standoff (Typ): 6V
footprint SOD123F
pins: 1, 2

## ATV02W101B-HF
designator D?
TVS DIODE 100V 162V SOD123; Manufacturer: Comchip Technology; Bidirectional Channels: 1; Current - Peak Pulse (10/1000µs): 1.23A; Power Line Protection: No; Power - Peak Pulse: 200W; Type: Zener; Voltage - Breakdown (Min): 111V; Part Number: ATV02W101B-HF; Applications: Automotive; ComponentLink1Description: Datasheet; ComponentLink1URL: http://www.comchiptech.com/admin/files/product/ATV02W-HF%20series%20RevC.pdf; ComponentLink2Description: DigiKey Link; ComponentLink2URL: http://digikey.com/product-detail/en/comchip-technology/ATV02W101B-HF/641-2094-1-ND/10131680; LastUpdated: 9/2/2020 1:28:38 AM; Lifecycle Status: Active; Minimum Order: 1; Mounting Type: Surface Mount; Operating Temperature: -55°C ~ 150°C (TJ); Package / Case: SOD-123F; Packaging: CutTape; PartId: 10261; Part Status: Active; Price: 0.37; Series: Automotive, AEC-Q101; Supplier 1: DigiKey; Supplier Part Number 1: 641-2094-1-ND; Supplier Device Package: SOD-123; Voltage - Clamping (Max) @ Ipp: 162V; Voltage - Reverse Standoff (Typ): 100V
footprint SOD123F
pins: 1, 2

## ATV02W120-HF
designator D?
TVS DIODE 12V 19.9V SOD123; Manufacturer: Comchip Technology; Current - Peak Pulse (10/1000µs): 10.05A; Power Line Protection: No; Power - Peak Pulse: 200W; Type: Zener; Unidirectional Channels: 1; Voltage - Breakdown (Min): 13.3V; Part Number: ATV02W120-HF; Applications: Automotive; ComponentLink1Description: Datasheet; ComponentLink1URL: http://www.comchiptech.com/admin/files/product/ATV02W-HF%20series%20RevC.pdf; ComponentLink2Description: DigiKey Link; ComponentLink2URL: http://digikey.com/product-detail/en/comchip-technology/ATV02W120-HF/641-1659-1-ND/5013864; LastUpdated: 9/2/2020 1:28:37 AM; Lifecycle Status: Active; Minimum Order: 1; Mounting Type: Surface Mount; Operating Temperature: -55°C ~ 150°C (TJ); Package / Case: SOD-123F; Packaging: CutTape; PartId: 10166; Part Status: Active; Price: 0.48; Series: Automotive, AEC-Q101; Supplier 1: DigiKey; Supplier Part Number 1: 641-1659-1-ND; Supplier Device Package: SOD-123; Voltage - Clamping (Max) @ Ipp: 19.9V; Voltage - Reverse Standoff (Typ): 12V
footprint SOD123F
pins: 1, 2

## ATV02W120B-HF
designator D?
TVS DIODE 12V 19.9V SOD123; Manufacturer: Comchip Technology; Bidirectional Channels: 1; Current - Peak Pulse (10/1000µs): 10.05A; Power Line Protection: No; Power - Peak Pulse: 200W; Type: Zener; Voltage - Breakdown (Min): 13.3V; Part Number: ATV02W120B-HF; Applications: Automotive; ComponentLink1Description: Datasheet; ComponentLink1URL: http://www.comchiptech.com/admin/files/product/ATV02W-HF%20series%20RevC.pdf; ComponentLink2Description: DigiKey Link; ComponentLink2URL: http://digikey.com/product-detail/en/comchip-technology/ATV02W120B-HF/641-1658-1-ND/5013863; LastUpdated: 9/2/2020 1:28:38 AM; Lifecycle Status: Active; Minimum Order: 1; Mounting Type: Surface Mount; Operating Temperature: -55°C ~ 150°C (TJ); Package / Case: SOD-123F; Packaging: TapeAndReel; PartId: 10246; Part Status: Active; Price: 0.10; Series: Automotive, AEC-Q101; Supplier 1: DigiKey; Supplier Part Number 1: 641-1658-1-ND; Supplier Device Package: SOD-123; Voltage - Clamping (Max) @ Ipp: 19.9V; Voltage - Reverse Standoff (Typ): 12V
footprint SOD123F
pins: 1, 2

## ATV02W150B-HF
designator D?
TVS DIODE 15V 24.4V SOD123F; Manufacturer: Comchip Technology; Bidirectional Channels: 1; Current - Peak Pulse (10/1000µs): 8.2A; Power Line Protection: No; Power - Peak Pulse: 200W; Type: Zener; Voltage - Breakdown (Min): 16.7V; Part Number: ATV02W150B-HF; Applications: Automotive; ComponentLink1Description: Datasheet; ComponentLink1URL: http://www.comchiptech.com/admin/files/product/ATV02W-HF%20series%20RevC.pdf; ComponentLink2Description: DigiKey Link; ComponentLink2URL: http://digikey.com/product-detail/en/comchip-technology/ATV02W150B-HF/641-2061-1-ND/10131647; LastUpdated: 9/2/2020 1:28:38 AM; Lifecycle Status: Active; Minimum Order: 1; Mounting Type: Surface Mount; Operating Temperature: -55°C ~ 150°C (TJ); Package / Case: SOD-123F; Packaging: TapeAndReel; PartId: 10249; Part Status: Active; Price: 0.10; Series: Automotive, AEC-Q101; Supplier 1: DigiKey; Supplier Part Number 1: 641-2061-1-ND; Supplier Device Package: SOD-123F; Voltage - Clamping (Max) @ Ipp: 24.4V; Voltage - Reverse Standoff (Typ): 15V
footprint SOD123F
pins: 1, 2

## ATV02W180B-HF
designator D?
TVS DIODE 18V 29.2V SOD123; Manufacturer: Comchip Technology; Bidirectional Channels: 1; Current - Peak Pulse (10/1000µs): 6.85A; Power Line Protection: No; Power - Peak Pulse: 200W; Type: Zener; Voltage - Breakdown (Min): 20V; Part Number: ATV02W180B-HF; Applications: Automotive; ComponentLink1Description: Datasheet; ComponentLink1URL: http://www.comchiptech.com/admin/files/product/ATV02W-HF%20series%20RevC.pdf; ComponentLink2Description: DigiKey Link; ComponentLink2URL: http://digikey.com/product-detail/en/comchip-technology/ATV02W180B-HF/641-1961-1-ND/9477890; LastUpdated: 9/2/2020 1:28:38 AM; Lifecycle Status: Active; Minimum Order: 1; Mounting Type: Surface Mount; Operating Temperature: -55°C ~ 150°C (TJ); Package / Case: SOD-123F; Packaging: TapeAndReel; PartId: 10244; Part Status: Active; Price: 0.10; Series: Automotive, AEC-Q101; Supplier 1: DigiKey; Supplier Part Number 1: 641-1961-1-ND; Supplier Device Package: SOD-123; Voltage - Clamping (Max) @ Ipp: 29.2V; Voltage - Reverse Standoff (Typ): 18V
footprint SOD123F
pins: 1, 2

## ATV02W181B-HF
designator D?
TVS DIODE 180V 292V SOD123; Manufacturer: Comchip Technology; Bidirectional Channels: 1; Current - Peak Pulse (10/1000µs): 690mA; Power Line Protection: No; Power - Peak Pulse: 200W; Type: Zener; Voltage - Breakdown (Min): 200V; Part Number: ATV02W181B-HF; Applications: Automotive; ComponentLink1Description: Datasheet; ComponentLink1URL: http://www.comchiptech.com/admin/files/product/ATV02W-HF%20series%20RevC.pdf; ComponentLink2Description: DigiKey Link; ComponentLink2URL: http://digikey.com/product-detail/en/comchip-technology/ATV02W181B-HF/641-2083-1-ND/10131669; LastUpdated: 9/2/2020 1:28:38 AM; Lifecycle Status: Active; Minimum Order: 1; Mounting Type: Surface Mount; Operating Temperature: -55°C ~ 150°C (TJ); Package / Case: SOD-123F; Packaging: TapeAndReel; PartId: 10260; Part Status: Active; Price: 0.10; Series: Automotive, AEC-Q101; Supplier 1: DigiKey; Supplier Part Number 1: 641-2083-1-ND; Supplier Device Package: SOD-123; Voltage - Clamping (Max) @ Ipp: 292V; Voltage - Reverse Standoff (Typ): 180V
footprint SOD123F
pins: 1, 2

## ATV02W240B-HF
designator D?
TVS DIODE 24V 38.9V SOD123; Manufacturer: Comchip Technology; Bidirectional Channels: 1; Current - Peak Pulse (10/1000µs): 5.14A; Power Line Protection: No; Power - Peak Pulse: 200W; Type: Zener; Voltage - Breakdown (Min): 26.7V; Part Number: ATV02W240B-HF; Applications: Automotive; ComponentLink1Description: Datasheet; ComponentLink1URL: http://www.comchiptech.com/admin/files/product/ATV02W-HF%20series%20RevC.pdf; ComponentLink2Description: DigiKey Link; ComponentLink2URL: http://digikey.com/product-detail/en/comchip-technology/ATV02W240B-HF/641-1660-1-ND/5013865; LastUpdated: 9/2/2020 1:28:38 AM; Lifecycle Status: Active; Minimum Order: 1; Mounting Type: Surface Mount; Operating Temperature: -55°C ~ 150°C (TJ); Package / Case: SOD-123F; Packaging: TapeAndReel; PartId: 10257; Part Status: Active; Price: 0.10; Series: Automotive, AEC-Q101; Supplier 1: DigiKey; Supplier Part Number 1: 641-1660-1-ND; Supplier Device Package: SOD-123; Voltage - Clamping (Max) @ Ipp: 38.9V; Voltage - Reverse Standoff (Typ): 24V
footprint SOD123F
pins: 1, 2

## ATV02W260B-HF
designator D?
TVS DIODE 26V 42.1V SOD123; Manufacturer: Comchip Technology; Bidirectional Channels: 1; Current - Peak Pulse (10/1000µs): 4.75A; Power Line Protection: No; Power - Peak Pulse: 200W; Type: Zener; Voltage - Breakdown (Min): 28.9V; Part Number: ATV02W260B-HF; Applications: Automotive; ComponentLink1Description: Datasheet; ComponentLink1URL: http://www.comchiptech.com/admin/files/product/ATV02W-HF%20series%20RevC.pdf; ComponentLink2Description: DigiKey Link; ComponentLink2URL: http://digikey.com/product-detail/en/comchip-technology/ATV02W260B-HF/641-1662-1-ND/5013867; LastUpdated: 9/2/2020 1:28:38 AM; Lifecycle Status: Active; Minimum Order: 1; Mounting Type: Surface Mount; Operating Temperature: -55°C ~ 150°C (TJ); Package / Case: SOD-123F; Packaging: TapeAndReel; PartId: 10256; Part Status: Active; Price: 0.10; Series: Automotive, AEC-Q101; Supplier 1: DigiKey; Supplier Part Number 1: 641-1662-1-ND; Supplier Device Package: SOD-123; Voltage - Clamping (Max) @ Ipp: 42.1V; Voltage - Reverse Standoff (Typ): 26V
footprint SOD123F
pins: 1, 2

## ATV02W280B-HF
designator D?
TVS DIODE 28V 45.4V SOD123; Manufacturer: Comchip Technology; Bidirectional Channels: 1; Current - Peak Pulse (10/1000µs): 4.41A; Power Line Protection: No; Power - Peak Pulse: 200W; Type: Zener; Voltage - Breakdown (Min): 31.1V; Part Number: ATV02W280B-HF; Applications: Automotive; ComponentLink1Description: Datasheet; ComponentLink1URL: http://www.comchiptech.com/admin/files/product/ATV02W-HF%20series%20RevC.pdf; ComponentLink2Description: DigiKey Link; ComponentLink2URL: http://digikey.com/product-detail/en/comchip-technology/ATV02W280B-HF/641-2080-1-ND/10131666; LastUpdated: 9/2/2020 1:28:33 AM; Lifecycle Status: Active; Minimum Order: 1; Mounting Type: Surface Mount; Operating Temperature: -55°C ~ 150°C (TJ); Package / Case: SOD-123; Packaging: TapeAndReel; PartId: 10028; Part Status: Active; Price: 0.10; Series: Automotive, AEC-Q101; Supplier 1: DigiKey; Supplier Part Number 1: 641-2080-1-ND; Supplier Device Package: SOD-123; Voltage - Clamping (Max) @ Ipp: 45.4V; Voltage - Reverse Standoff (Typ): 28V
footprint SOD-123
pins: 1, 2